# Altium schematic symbol library Molex FFC - FPC Connectors (Through-Hole).SchLib: 219 symbols (part 4 of 7)
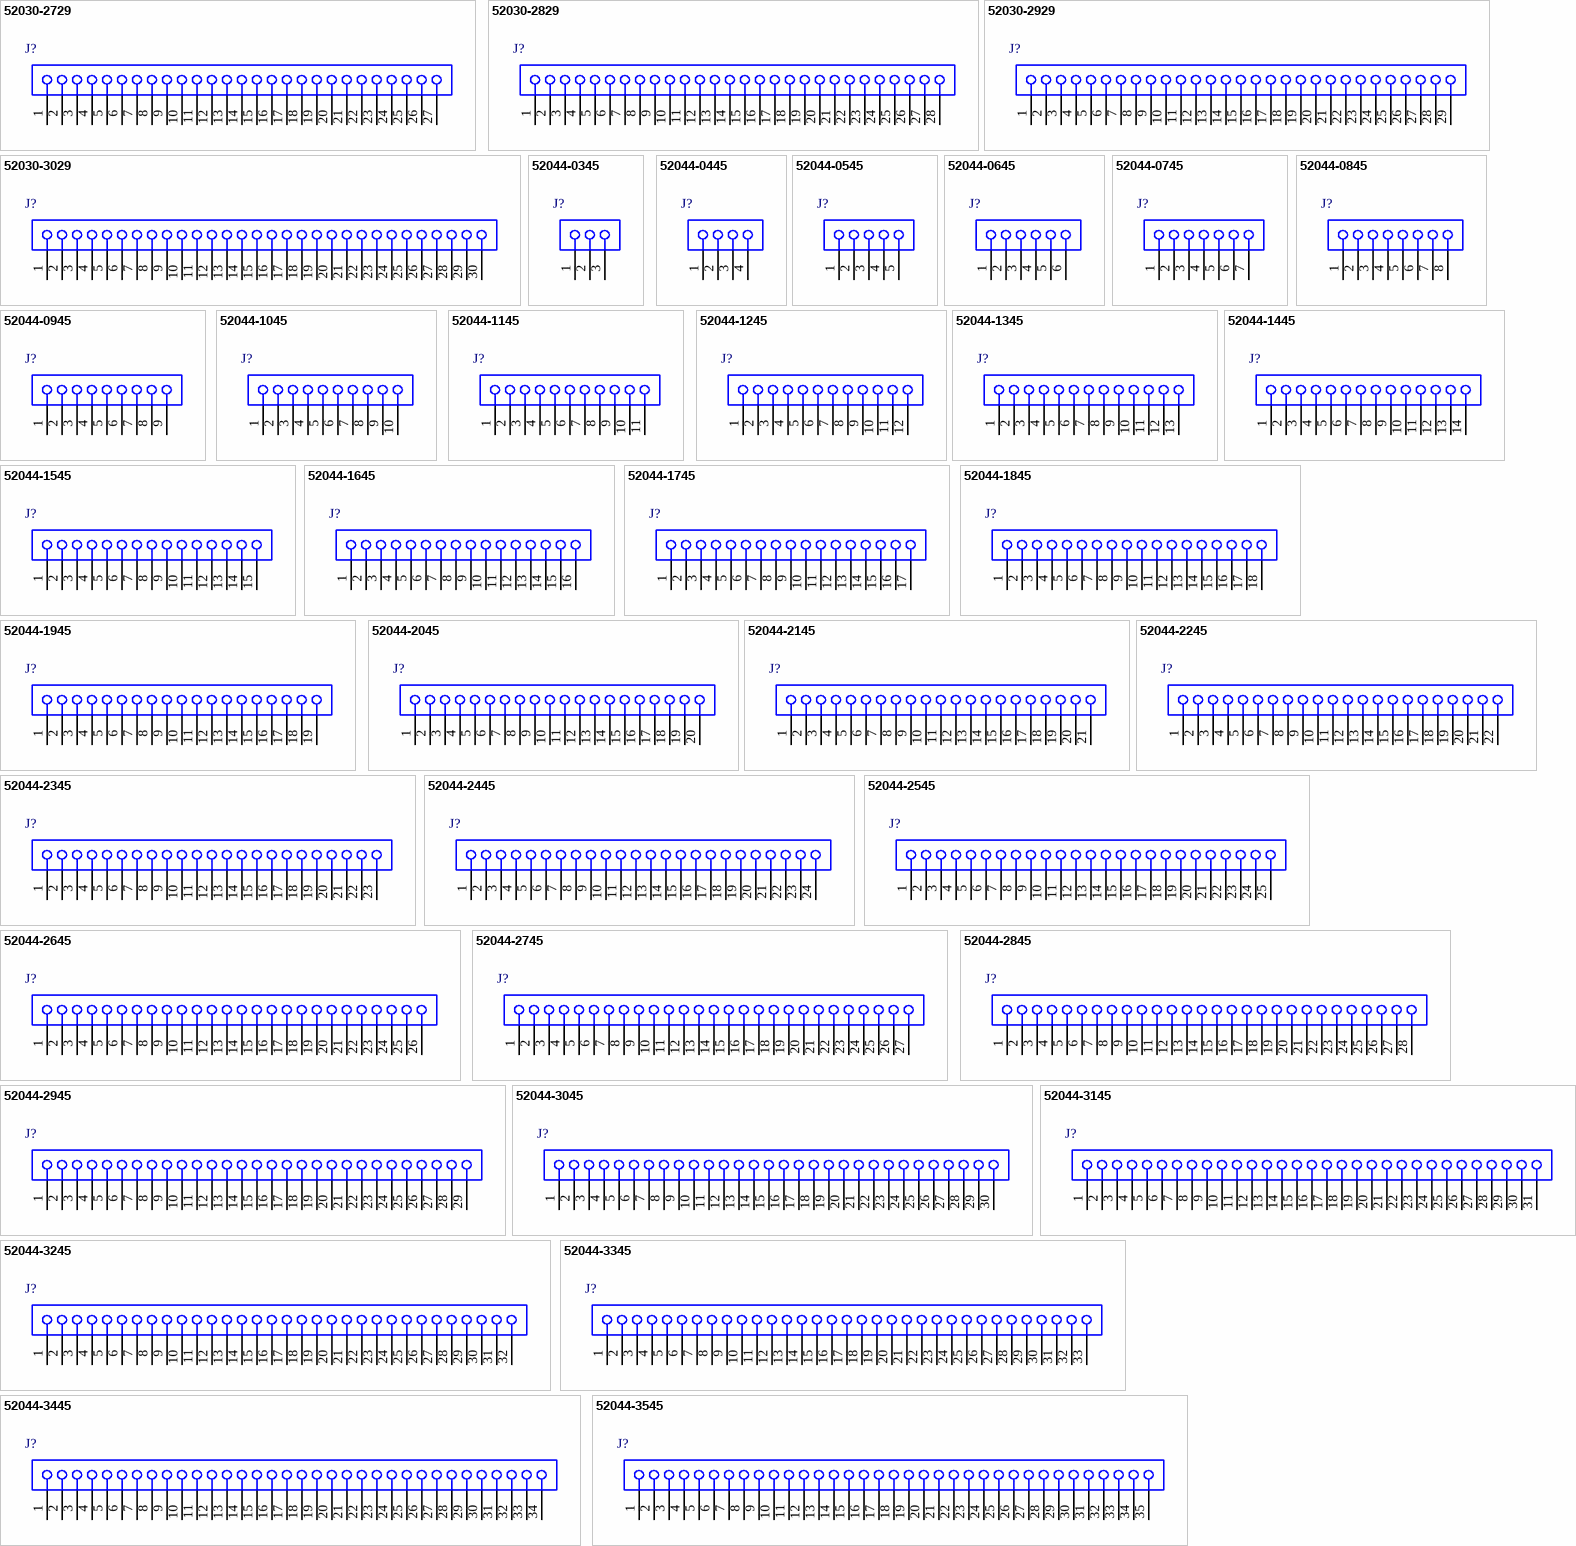
[diagram p8: symbols 52030-2729 to 52044-3545]

## 52044-2945
designator J?
1.25 mm Pitch FFC Connector, 5.1 mm Mated Height, Right Angle, Non-ZIF, Through Hole, Top Contact, 29 Circuits, -40 to 85 degC, ELV and RoHS Compliant, Tray; Manufacturer: Molex; PartNumber: 52044-2945; Circuits (Loaded): 29; Current (Max per Contact): 0.5A, 1A; Entry Angle: 90degrees Angle; Mated Height: 5.10mm; PCB Retention: None; Pitch - Mating Interface: 1.25mm; Polarized to PCB: Yes; Stackable: No; Voltage (Max): 200V; PackageVersion: Rev. C, 10/2002; PackageReference: 52044-2945; PackageDescription: 29-Lead FFC Connector, Pitch 1.25 mm; Contact Position: Top; Number of Rows: 1; Orientation: Right Angle; Packing: Tray; RoHS: TRUE; Mounting Technology: Through Hole; ComponentLink1Description: Manufacturer URL; ComponentLink1URL: http://www.molex.com/molex/index.jsp; ComponentLink2Description: Datasheet; ComponentLink2URL: http://www.molex.com/webdocs/datasheets/pdf/en-us/0520442945_FFC_FPC_CONNECTORS.pdf; ComponentLink3Description: Package Specification; ComponentLink3URL: http://www.molex.com/pdm_docs/sd/520442945_sd.pdf
footprint MOLX-52044-2945 (FFC Connector, 29-Leads, Right Angle, Pitch 1.25 mm, Mated Height 5.1 mm, Through Hole)
pins: 1, 2, 3, 4, 5, 6, 7, 8, 9, 10, 11, 12, 13, 14, 15, 16, 17, 18, 19, 20, 21, 22, 23, 24, 25, 26, 27, 28, 29

## 52044-3045
designator J?
1.25 mm Pitch FFC Connector, 5.1 mm Mated Height, Right Angle, Non-ZIF, Through Hole, Top Contact, 30 Circuits, -40 to 85 degC, ELV and RoHS Compliant, Tray; Manufacturer: Molex; PartNumber: 52044-3045; Circuits (Loaded): 30; Current (Max per Contact): 0.5A, 1A; Entry Angle: 90degrees Angle; Mated Height: 5.10mm; PCB Retention: None; Pitch - Mating Interface: 1.25mm; Polarized to PCB: Yes; Stackable: No; Voltage (Max): 200V; PackageVersion: Rev. C, 10/2002; PackageReference: 52044-3045; PackageDescription: 30-Lead FFC Connector, Pitch 1.25 mm; Contact Position: Top; Number of Rows: 1; Orientation: Right Angle; Packing: Tray; RoHS: TRUE; Mounting Technology: Through Hole; ComponentLink1Description: Manufacturer URL; ComponentLink1URL: http://www.molex.com/molex/index.jsp; ComponentLink2Description: Datasheet; ComponentLink2URL: http://www.molex.com/webdocs/datasheets/pdf/en-us/0520443045_FFC_FPC_CONNECTORS.pdf; ComponentLink3Description: Package Specification; ComponentLink3URL: http://www.molex.com/pdm_docs/sd/520443045_sd.pdf
footprint MOLX-52044-3045 (FFC Connector, 30-Leads, Right Angle, Pitch 1.25 mm, Mated Height 5.1 mm, Through Hole)
pins: 1, 2, 3, 4, 5, 6, 7, 8, 9, 10, 11, 12, 13, 14, 15, 16, 17, 18, 19, 20, 21, 22, 23, 24, 25, 26, 27, 28, 29, 30

## 52044-3145
designator J?
1.25 mm Pitch FFC Connector, 5.1 mm Mated Height, Right Angle, Non-ZIF, Through Hole, Top Contact, 31 Circuits, -40 to 85 degC, ELV and RoHS Compliant, Tray; Manufacturer: Molex; PartNumber: 52044-3145; Circuits (Loaded): 31; Current (Max per Contact): 0.5A, 1A; Entry Angle: 90degrees Angle; Mated Height: 5.10mm; PCB Retention: None; Pitch - Mating Interface: 1.25mm; Polarized to PCB: Yes; Stackable: No; Voltage (Max): 200V; PackageVersion: Rev. C, 10/2002; PackageReference: 52044-3145; PackageDescription: 31-Lead FFC Connector, Pitch 1.25 mm; Contact Position: Top; Number of Rows: 1; Orientation: Right Angle; Packing: Tray; RoHS: TRUE; Mounting Technology: Through Hole; ComponentLink1Description: Manufacturer URL; ComponentLink1URL: http://www.molex.com/molex/index.jsp; ComponentLink2Description: Datasheet; ComponentLink2URL: http://www.molex.com/webdocs/datasheets/pdf/en-us/0520443145_FFC_FPC_CONNECTORS.pdf; ComponentLink3Description: Package Specification; ComponentLink3URL: http://www.molex.com/pdm_docs/sd/520443145_sd.pdf
footprint MOLX-52044-3145 (FFC Connector, 31-Leads, Right Angle, Pitch 1.25 mm, Mated Height 5.1 mm, Through Hole)
pins: 1, 2, 3, 4, 5, 6, 7, 8, 9, 10, 11, 12, 13, 14, 15, 16, 17, 18, 19, 20, 21, 22, 23, 24, 25, 26, 27, 28, 29, 30, 31

## 52044-3245
designator J?
1.25 mm Pitch FFC Connector, 5.1 mm Mated Height, Right Angle, Non-ZIF, Through Hole, Top Contact, 32 Circuits, -40 to 85 degC, ELV and RoHS Compliant, Tray; Manufacturer: Molex; PartNumber: 52044-3245; Circuits (Loaded): 32; Current (Max per Contact): 0.5A, 1A; Entry Angle: 90degrees Angle; Mated Height: 5.10mm; PCB Retention: None; Pitch - Mating Interface: 1.25mm; Polarized to PCB: Yes; Stackable: No; Voltage (Max): 200V; PackageVersion: Rev. C, 10/2002; PackageReference: 52044-3245; PackageDescription: 32-Lead FFC Connector, Pitch 1.25 mm; Contact Position: Top; Number of Rows: 1; Orientation: Right Angle; Packing: Tray; RoHS: TRUE; Mounting Technology: Through Hole; ComponentLink1Description: Manufacturer URL; ComponentLink1URL: http://www.molex.com/molex/index.jsp; ComponentLink2Description: Datasheet; ComponentLink2URL: http://www.molex.com/webdocs/datasheets/pdf/en-us/0520443245_FFC_FPC_CONNECTORS.pdf; ComponentLink3Description: Package Specification; ComponentLink3URL: http://www.molex.com/pdm_docs/sd/520443245_sd.pdf
footprint MOLX-52044-3245 (FFC Connector, 32-Leads, Right Angle, Pitch 1.25 mm, Mated Height 5.1 mm, Through Hole)
pins: 1, 2, 3, 4, 5, 6, 7, 8, 9, 10, 11, 12, 13, 14, 15, 16, 17, 18, 19, 20, 21, 22, 23, 24, 25, 26, 27, 28, 29, 30, 31, 32

## 52044-3345
designator J?
1.25 mm Pitch FFC Connector, 5.1 mm Mated Height, Right Angle, Non-ZIF, Through Hole, Top Contact, 33 Circuits, -40 to 85 degC, ELV and RoHS Compliant, Tray; Manufacturer: Molex; PartNumber: 52044-3345; Circuits (Loaded): 33; Current (Max per Contact): 0.5A, 1A; Entry Angle: 90degrees Angle; Mated Height: 5.10mm; PCB Retention: None; Pitch - Mating Interface: 1.25mm; Polarized to PCB: Yes; Stackable: No; Voltage (Max): 200V; PackageVersion: Rev. C, 10/2002; PackageReference: 52044-3345; PackageDescription: 33-Lead FFC Connector, Pitch 1.25 mm; Contact Position: Top; Number of Rows: 1; Orientation: Right Angle; Packing: Tray; RoHS: TRUE; Mounting Technology: Through Hole; ComponentLink1Description: Manufacturer URL; ComponentLink1URL: http://www.molex.com/molex/index.jsp; ComponentLink2Description: Datasheet; ComponentLink2URL: http://www.molex.com/webdocs/datasheets/pdf/en-us/0520443345_FFC_FPC_CONNECTORS.pdf; ComponentLink3Description: Package Specification; ComponentLink3URL: http://www.molex.com/pdm_docs/sd/520443345_sd.pdf
footprint MOLX-52044-3345 (FFC Connector, 33-Leads, Right Angle, Pitch 1.25 mm, Mated Height 5.1 mm, Through Hole)
pins: 1, 2, 3, 4, 5, 6, 7, 8, 9, 10, 11, 12, 13, 14, 15, 16, 17, 18, 19, 20, 21, 22, 23, 24, 25, 26, 27, 28, 29, 30, 31, 32, 33

## 52044-3445
designator J?
1.25 mm Pitch FFC Connector, 5.1 mm Mated Height, Right Angle, Non-ZIF, Through Hole, Top Contact, 34 Circuits, -40 to 85 degC, ELV and RoHS Compliant, Tray; Manufacturer: Molex; PartNumber: 52044-3445; Circuits (Loaded): 34; Current (Max per Contact): 0.5A, 1A; Entry Angle: 90degrees Angle; Mated Height: 5.10mm; PCB Retention: None; Pitch - Mating Interface: 1.25mm; Polarized to PCB: Yes; Stackable: No; Voltage (Max): 200V; PackageVersion: Rev. C, 10/2002; PackageReference: 52044-3445; PackageDescription: 34-Lead FFC Connector, Pitch 1.25 mm; Contact Position: Top; Number of Rows: 1; Orientation: Right Angle; Packing: Tray; RoHS: TRUE; Mounting Technology: Through Hole; ComponentLink1Description: Manufacturer URL; ComponentLink1URL: http://www.molex.com/molex/index.jsp; ComponentLink2Description: Datasheet; ComponentLink2URL: http://www.molex.com/webdocs/datasheets/pdf/en-us/0520443445_FFC_FPC_CONNECTORS.pdf; ComponentLink3Description: Package Specification; ComponentLink3URL: http://www.molex.com/pdm_docs/sd/520443445_sd.pdf
footprint MOLX-52044-3445 (FFC Connector, 34-Leads, Right Angle, Pitch 1.25 mm, Mated Height 5.1 mm, Through Hole)
pins: 1, 2, 3, 4, 5, 6, 7, 8, 9, 10, 11, 12, 13, 14, 15, 16, 17, 18, 19, 20, 21, 22, 23, 24, 25, 26, 27, 28, 29, 30, 31, 32, 33, 34

## 52044-3545
designator J?
1.25 mm Pitch FFC Connector, 5.1 mm Mated Height, Right Angle, Non-ZIF, Through Hole, Top Contact, 35 Circuits, -40 to 85 degC, ELV and RoHS Compliant, Tray; Manufacturer: Molex; PartNumber: 52044-3545; Circuits (Loaded): 35; Current (Max per Contact): 0.5A, 1A; Entry Angle: 90degrees Angle; Mated Height: 5.10mm; PCB Retention: None; Pitch - Mating Interface: 1.25mm; Polarized to PCB: Yes; Stackable: No; Voltage (Max): 200V; PackageVersion: Rev. C, 10/2002; PackageReference: 52044-3545; PackageDescription: 35-Lead FFC Connector, Pitch 1.25 mm; Contact Position: Top; Number of Rows: 1; Orientation: Right Angle; Packing: Tray; RoHS: TRUE; Mounting Technology: Through Hole; ComponentLink1Description: Manufacturer URL; ComponentLink1URL: http://www.molex.com/molex/index.jsp; ComponentLink2Description: Datasheet; ComponentLink2URL: http://www.molex.com/webdocs/datasheets/pdf/en-us/0520443545_FFC_FPC_CONNECTORS.pdf; ComponentLink3Description: Package Specification; ComponentLink3URL: http://www.molex.com/pdm_docs/sd/520443545_sd.pdf
footprint MOLX-52044-3545 (FFC Connector, 35-Leads, Right Angle, Pitch 1.25 mm, Mated Height 5.1 mm, Through Hole)
pins: 1, 2, 3, 4, 5, 6, 7, 8, 9, 10, 11, 12, 13, 14, 15, 16, 17, 18, 19, 20, 21, 22, 23, 24, 25, 26, 27, 28, 29, 30, 31, 32, 33, 34, 35

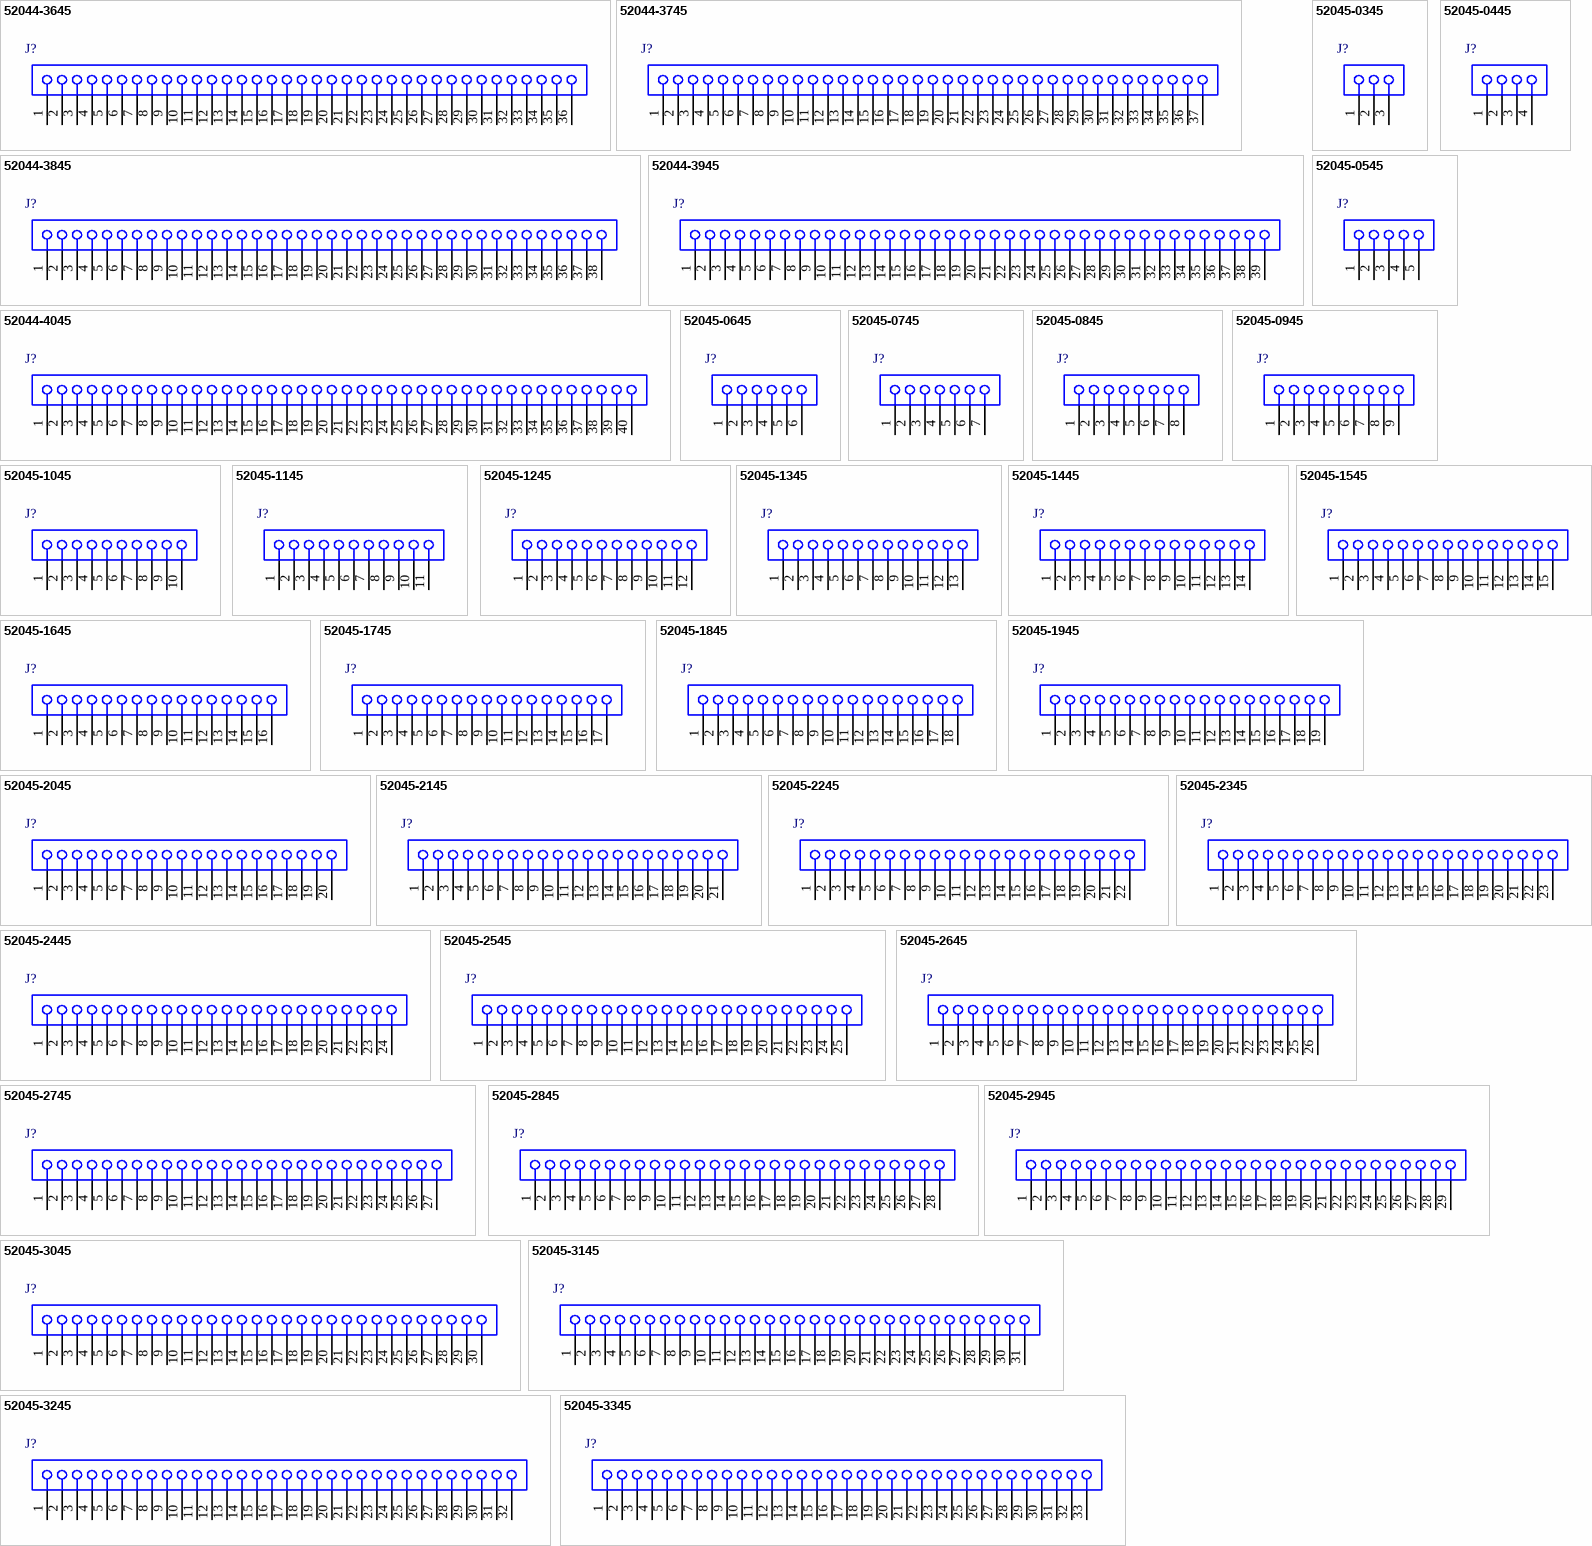
[diagram p3: symbols 52044-3645 to 52045-3345]

## 52044-3645
designator J?
1.25 mm Pitch FFC Connector, 5.1 mm Mated Height, Right Angle, Non-ZIF, Through Hole, Top Contact, 36 Circuits, -40 to 85 degC, ELV and RoHS Compliant, Tray; Manufacturer: Molex; PartNumber: 52044-3645; Circuits (Loaded): 36; Current (Max per Contact): 0.5A, 1A; Entry Angle: 90degrees Angle; Mated Height: 5.10mm; PCB Retention: None; Pitch - Mating Interface: 1.25mm; Polarized to PCB: Yes; Stackable: No; Voltage (Max): 200V; PackageVersion: Rev. C, 10/2002; PackageReference: 52044-3645; PackageDescription: 36-Lead FFC Connector, Pitch 1.25 mm; Contact Position: Top; Number of Rows: 1; Orientation: Right Angle; Packing: Tray; RoHS: TRUE; Mounting Technology: Through Hole; ComponentLink1Description: Manufacturer URL; ComponentLink1URL: http://www.molex.com/molex/index.jsp; ComponentLink2Description: Datasheet; ComponentLink2URL: http://www.molex.com/webdocs/datasheets/pdf/en-us/0520443645_FFC_FPC_CONNECTORS.pdf; ComponentLink3Description: Package Specification; ComponentLink3URL: http://www.molex.com/pdm_docs/sd/520443645_sd.pdf
footprint MOLX-52044-3645 (FFC Connector, 36-Leads, Right Angle, Pitch 1.25 mm, Mated Height 5.1 mm, Through Hole)
pins: 1, 2, 3, 4, 5, 6, 7, 8, 9, 10, 11, 12, 13, 14, 15, 16, 17, 18, 19, 20, 21, 22, 23, 24, 25, 26, 27, 28, 29, 30, 31, 32, 33, 34, 35, 36

## 52044-3745
designator J?
1.25 mm Pitch FFC Connector, 5.1 mm Mated Height, Right Angle, Non-ZIF, Through Hole, Top Contact, 37 Circuits, -40 to 85 degC, ELV and RoHS Compliant, Tray; Manufacturer: Molex; PartNumber: 52044-3745; Circuits (Loaded): 37; Current (Max per Contact): 0.5A, 1A; Entry Angle: 90degrees Angle; Mated Height: 5.10mm; PCB Retention: None; Pitch - Mating Interface: 1.25mm; Polarized to PCB: Yes; Stackable: No; Voltage (Max): 200V; PackageVersion: Rev. C, 10/2002; PackageReference: 52044-3745; PackageDescription: 37-Lead FFC Connector, Pitch 1.25 mm; Contact Position: Top; Number of Rows: 1; Orientation: Right Angle; Packing: Tray; RoHS: TRUE; Mounting Technology: Through Hole; ComponentLink1Description: Manufacturer URL; ComponentLink1URL: http://www.molex.com/molex/index.jsp; ComponentLink2Description: Datasheet; ComponentLink2URL: http://www.molex.com/webdocs/datasheets/pdf/en-us/0520443745_FFC_FPC_CONNECTORS.pdf; ComponentLink3Description: Package Specification; ComponentLink3URL: http://www.molex.com/pdm_docs/sd/520443745_sd.pdf
footprint MOLX-52044-3745 (FFC Connector, 37-Leads, Right Angle, Pitch 1.25 mm, Mated Height 5.1 mm, Through Hole)
pins: 1, 2, 3, 4, 5, 6, 7, 8, 9, 10, 11, 12, 13, 14, 15, 16, 17, 18, 19, 20, 21, 22, 23, 24, 25, 26, 27, 28, 29, 30, 31, 32, 33, 34, 35, 36, 37

## 52044-3845
designator J?
1.25 mm Pitch FFC Connector, 5.1 mm Mated Height, Right Angle, Non-ZIF, Through Hole, Top Contact, 38 Circuits, -40 to 85 degC, ELV and RoHS Compliant, Tray; Manufacturer: Molex; PartNumber: 52044-3845; Circuits (Loaded): 38; Current (Max per Contact): 0.5A, 1A; Entry Angle: 90degrees Angle; Mated Height: 5.10mm; PCB Retention: None; Pitch - Mating Interface: 1.25mm; Polarized to PCB: Yes; Stackable: No; Voltage (Max): 200V; PackageVersion: Rev. C, 10/2002; PackageReference: 52044-3845; PackageDescription: 38-Lead FFC Connector, Pitch 1.25 mm; Contact Position: Top; Number of Rows: 1; Orientation: Right Angle; Packing: Tray; RoHS: TRUE; Mounting Technology: Through Hole; ComponentLink1Description: Manufacturer URL; ComponentLink1URL: http://www.molex.com/molex/index.jsp; ComponentLink2Description: Datasheet; ComponentLink2URL: http://www.molex.com/webdocs/datasheets/pdf/en-us/0520443845_FFC_FPC_CONNECTORS.pdf; ComponentLink3Description: Package Specification; ComponentLink3URL: http://www.molex.com/pdm_docs/sd/520443845_sd.pdf
footprint MOLX-52044-3845 (FFC Connector, 38-Leads, Right Angle, Pitch 1.25 mm, Mated Height 5.1 mm, Through Hole)
pins: 1, 2, 3, 4, 5, 6, 7, 8, 9, 10, 11, 12, 13, 14, 15, 16, 17, 18, 19, 20, 21, 22, 23, 24, 25, 26, 27, 28, 29, 30, 31, 32, 33, 34, 35, 36, 37, 38

## 52044-3945
designator J?
1.25 mm Pitch FFC Connector, 5.1 mm Mated Height, Right Angle, Non-ZIF, Through Hole, Top Contact, 39 Circuits, -40 to 85 degC, ELV and RoHS Compliant, Tray; Manufacturer: Molex; PartNumber: 52044-3945; Circuits (Loaded): 39; Current (Max per Contact): 0.5A, 1A; Entry Angle: 90degrees Angle; Mated Height: 5.10mm; PCB Retention: None; Pitch - Mating Interface: 1.25mm; Polarized to PCB: Yes; Stackable: No; Voltage (Max): 200V; PackageVersion: Rev. C, 10/2002; PackageReference: 52044-3945; PackageDescription: 39-Lead FFC Connector, Pitch 1.25 mm; Contact Position: Top; Number of Rows: 1; Orientation: Right Angle; Packing: Tray; RoHS: TRUE; Mounting Technology: Through Hole; ComponentLink1Description: Manufacturer URL; ComponentLink1URL: http://www.molex.com/molex/index.jsp; ComponentLink2Description: Datasheet; ComponentLink2URL: http://www.molex.com/webdocs/datasheets/pdf/en-us/0520443945_FFC_FPC_CONNECTORS.pdf; ComponentLink3Description: Package Specification; ComponentLink3URL: http://www.molex.com/pdm_docs/sd/520443945_sd.pdf
footprint MOLX-52044-3945 (FFC Connector, 39-Leads, Right Angle, Pitch 1.25 mm, Mated Height 5.1 mm, Through Hole)
pins: 1, 2, 3, 4, 5, 6, 7, 8, 9, 10, 11, 12, 13, 14, 15, 16, 17, 18, 19, 20, 21, 22, 23, 24, 25, 26, 27, 28, 29, 30, 31, 32, 33, 34, 35, 36, 37, 38, 39

## 52044-4045
designator J?
1.25 mm Pitch FFC Connector, 5.1 mm Mated Height, Right Angle, Non-ZIF, Through Hole, Top Contact, 40 Circuits, -40 to 85 degC, ELV and RoHS Compliant, Tray; Manufacturer: Molex; PartNumber: 52044-4045; Circuits (Loaded): 40; Current (Max per Contact): 0.5A, 1A; Entry Angle: 90degrees Angle; Mated Height: 5.10mm; PCB Retention: None; Pitch - Mating Interface: 1.25mm; Polarized to PCB: Yes; Stackable: No; Voltage (Max): 200V; PackageVersion: Rev. C, 10/2002; PackageReference: 52044-4045; PackageDescription: 40-Lead FFC Connector, Pitch 1.25 mm; Contact Position: Top; Number of Rows: 1; Orientation: Right Angle; Packing: Tray; RoHS: TRUE; Mounting Technology: Through Hole; ComponentLink1Description: Manufacturer URL; ComponentLink1URL: http://www.molex.com/molex/index.jsp; ComponentLink2Description: Datasheet; ComponentLink2URL: http://www.molex.com/webdocs/datasheets/pdf/en-us/0520444045_FFC_FPC_CONNECTORS.pdf; ComponentLink3Description: Package Specification; ComponentLink3URL: http://www.molex.com/pdm_docs/sd/520444045_sd.pdf
footprint MOLX-52044-4045 (FFC Connector, 40-Leads, Right Angle, Pitch 1.25 mm, Mated Height 5.1 mm, Through Hole)
pins: 1, 2, 3, 4, 5, 6, 7, 8, 9, 10, 11, 12, 13, 14, 15, 16, 17, 18, 19, 20, 21, 22, 23, 24, 25, 26, 27, 28, 29, 30, 31, 32, 33, 34, 35, 36, 37, 38, 39, 40

## 52045-0345
designator J?
1.25 mm Pitch FFC Connector, 8.0 mm Mated Height, Vertical, Non-ZIF, Through Hole, 3 Circuits, -40 to 85 degC, ELV and RoHS Compliant, Tray; Manufacturer: Molex; PartNumber: 52045-0345; Circuits (Loaded): 3; Current (Max per Contact): 1A; Mated Height: 8.00mm; Material - Metal: Phosphor Bronze; Material - Plating Mating: Tin; PCB Retention: None; Pitch - Mating Interface: 1.25mm; Polarized to PCB: Yes; Stackable: No; Voltage (Max): 200V; PackageVersion: Rev. D, 10/2002; PackageReference: 52045-0345; PackageDescription: 3-Lead FFC Connector, Pitch 1.25 mm; Contact Position: N/A; Entry Angle: Vertical; Material - Plating Termination: Tin; Number of Rows: 1; Orientation: Vertical; Packing: Tray; RoHS: TRUE; Mounting Technology: Through Hole; ComponentLink1Description: Manufacturer URL; ComponentLink1URL: http://www.molex.com/molex/index.jsp; ComponentLink2Description: Datasheet; ComponentLink2URL: http://www.molex.com/webdocs/datasheets/pdf/en-us/0520450345_FFC_FPC_CONNECTORS.pdf; ComponentLink3Description: Package Specification; ComponentLink3URL: http://www.molex.com/pdm_docs/sd/520450345_sd.pdf
footprint MOLX-52045-0345 (FFC Connector, 3-Leads, Vertical, Pitch 1.25 mm, Mated Height 8.0 mm, Through Hole)
pins: 1, 2, 3

## 52045-0445
designator J?
1.25 mm Pitch FFC Connector, 8.0 mm Mated Height, Vertical, Non-ZIF, Through Hole, 4 Circuits, -40 to 85 degC, ELV and RoHS Compliant, Tray; Manufacturer: Molex; PartNumber: 52045-0445; Circuits (Loaded): 4; Current (Max per Contact): 1A; Mated Height: 8.00mm; Material - Metal: Phosphor Bronze; Material - Plating Mating: Tin; PCB Retention: None; Pitch - Mating Interface: 1.25mm; Polarized to PCB: Yes; Stackable: No; Voltage (Max): 200V; PackageVersion: Rev. D, 10/2002; PackageReference: 52045-0445; PackageDescription: 4-Lead FFC Connector, Pitch 1.25 mm; Contact Position: N/A; Entry Angle: Vertical; Material - Plating Termination: Tin; Number of Rows: 1; Orientation: Vertical; Packing: Tray; RoHS: TRUE; Mounting Technology: Through Hole; ComponentLink1Description: Manufacturer URL; ComponentLink1URL: http://www.molex.com/molex/index.jsp; ComponentLink2Description: Datasheet; ComponentLink2URL: http://www.molex.com/webdocs/datasheets/pdf/en-us/0520450445_FFC_FPC_CONNECTORS.pdf; ComponentLink3Description: Package Specification; ComponentLink3URL: http://www.molex.com/pdm_docs/sd/520450445_sd.pdf
footprint MOLX-52045-0445 (FFC Connector, 4-Leads, Vertical, Pitch 1.25 mm, Mated Height 8.0 mm, Through Hole)
pins: 1, 2, 3, 4

## 52045-0545
designator J?
1.25 mm Pitch FFC Connector, 8.0 mm Mated Height, Vertical, Non-ZIF, Through Hole, 5 Circuits, -40 to 85 degC, ELV and RoHS Compliant, Tray; Manufacturer: Molex; PartNumber: 52045-0545; Circuits (Loaded): 5; Current (Max per Contact): 1A; Mated Height: 8.00mm; Material - Metal: Phosphor Bronze; Material - Plating Mating: Tin; PCB Retention: None; Pitch - Mating Interface: 1.25mm; Polarized to PCB: Yes; Stackable: No; Voltage (Max): 200V; PackageVersion: Rev. D, 10/2002; PackageReference: 52045-0545; PackageDescription: 5-Lead FFC Connector, Pitch 1.25 mm; Contact Position: N/A; Entry Angle: Vertical; Material - Plating Termination: Tin; Number of Rows: 1; Orientation: Vertical; Packing: Tray; RoHS: TRUE; Mounting Technology: Through Hole; ComponentLink1Description: Manufacturer URL; ComponentLink1URL: http://www.molex.com/molex/index.jsp; ComponentLink2Description: Datasheet; ComponentLink2URL: http://www.molex.com/webdocs/datasheets/pdf/en-us/0520450545_FFC_FPC_CONNECTORS.pdf; ComponentLink3Description: Package Specification; ComponentLink3URL: http://www.molex.com/pdm_docs/sd/520450545_sd.pdf
footprint MOLX-52045-0545 (FFC Connector, 5-Leads, Vertical, Pitch 1.25 mm, Mated Height 8.0 mm, Through Hole)
pins: 1, 2, 3, 4, 5

## 52045-0645
designator J?
1.25 mm Pitch FFC Connector, 8.0 mm Mated Height, Vertical, Non-ZIF, Through Hole, 6 Circuits, -40 to 85 degC, ELV and RoHS Compliant, Tray; Manufacturer: Molex; PartNumber: 52045-0645; Circuits (Loaded): 6; Current (Max per Contact): 1A; Mated Height: 8.00mm; Material - Metal: Phosphor Bronze; Material - Plating Mating: Tin; PCB Retention: None; Pitch - Mating Interface: 1.25mm; Polarized to PCB: Yes; Stackable: No; Voltage (Max): 200V; PackageVersion: Rev. D, 10/2002; PackageReference: 52045-0645; PackageDescription: 6-Lead FFC Connector, Pitch 1.25 mm; Contact Position: N/A; Entry Angle: Vertical; Material - Plating Termination: Tin; Number of Rows: 1; Orientation: Vertical; Packing: Tray; RoHS: TRUE; Mounting Technology: Through Hole; ComponentLink1Description: Manufacturer URL; ComponentLink1URL: http://www.molex.com/molex/index.jsp; ComponentLink2Description: Datasheet; ComponentLink2URL: http://www.molex.com/webdocs/datasheets/pdf/en-us/0520450645_FFC_FPC_CONNECTORS.pdf; ComponentLink3Description: Package Specification; ComponentLink3URL: http://www.molex.com/pdm_docs/sd/520450645_sd.pdf
footprint MOLX-52045-0645 (FFC Connector, 6-Leads, Vertical, Pitch 1.25 mm, Mated Height 8.0 mm, Through Hole)
pins: 1, 2, 3, 4, 5, 6

## 52045-0745
designator J?
1.25 mm Pitch FFC Connector, 8.0 mm Mated Height, Vertical, Non-ZIF, Through Hole, 7 Circuits, -40 to 85 degC, ELV and RoHS Compliant, Tray; Manufacturer: Molex; PartNumber: 52045-0745; Circuits (Loaded): 7; Current (Max per Contact): 1A; Mated Height: 8.00mm; Material - Metal: Phosphor Bronze; Material - Plating Mating: Tin; PCB Retention: None; Pitch - Mating Interface: 1.25mm; Polarized to PCB: Yes; Stackable: No; Voltage (Max): 200V; PackageVersion: Rev. D, 10/2002; PackageReference: 52045-0745; PackageDescription: 7-Lead FFC Connector, Pitch 1.25 mm; Contact Position: N/A; Entry Angle: Vertical; Material - Plating Termination: Tin; Number of Rows: 1; Orientation: Vertical; Packing: Tray; RoHS: TRUE; Mounting Technology: Through Hole; ComponentLink1Description: Manufacturer URL; ComponentLink1URL: http://www.molex.com/molex/index.jsp; ComponentLink2Description: Datasheet; ComponentLink2URL: http://www.molex.com/webdocs/datasheets/pdf/en-us/0520450745_FFC_FPC_CONNECTORS.pdf; ComponentLink3Description: Package Specification; ComponentLink3URL: http://www.molex.com/pdm_docs/sd/520450745_sd.pdf
footprint MOLX-52045-0745 (FFC Connector, 7-Leads, Vertical, Pitch 1.25 mm, Mated Height 8.0 mm, Through Hole)
pins: 1, 2, 3, 4, 5, 6, 7

## 52045-0845
designator J?
1.25 mm Pitch FFC Connector, 8.0 mm Mated Height, Vertical, Non-ZIF, Through Hole, 8 Circuits, -40 to 85 degC, ELV and RoHS Compliant, Tray; Manufacturer: Molex; PartNumber: 52045-0845; Circuits (Loaded): 8; Current (Max per Contact): 1A; Mated Height: 8.00mm; Material - Metal: Phosphor Bronze; Material - Plating Mating: Tin; PCB Retention: None; Pitch - Mating Interface: 1.25mm; Polarized to PCB: Yes; Stackable: No; Voltage (Max): 200V; PackageVersion: Rev. D, 10/2002; PackageReference: 52045-0845; PackageDescription: 8-Lead FFC Connector, Pitch 1.25 mm; Contact Position: N/A; Entry Angle: Vertical; Material - Plating Termination: Tin; Number of Rows: 1; Orientation: Vertical; Packing: Tray; RoHS: TRUE; Mounting Technology: Through Hole; ComponentLink1Description: Manufacturer URL; ComponentLink1URL: http://www.molex.com/molex/index.jsp; ComponentLink2Description: Datasheet; ComponentLink2URL: http://www.molex.com/webdocs/datasheets/pdf/en-us/0520450845_FFC_FPC_CONNECTORS.pdf; ComponentLink3Description: Package Specification; ComponentLink3URL: http://www.molex.com/pdm_docs/sd/520450845_sd.pdf
footprint MOLX-52045-0845 (FFC Connector, 8-Leads, Vertical, Pitch 1.25 mm, Mated Height 8.0 mm, Through Hole)
pins: 1, 2, 3, 4, 5, 6, 7, 8

## 52045-0945
designator J?
1.25 mm Pitch FFC Connector, 8.0 mm Mated Height, Vertical, Non-ZIF, Through Hole, 9 Circuits, -40 to 85 degC, ELV and RoHS Compliant, Tray; Manufacturer: Molex; PartNumber: 52045-0945; Circuits (Loaded): 9; Current (Max per Contact): 1A; Mated Height: 8.00mm; Material - Metal: Phosphor Bronze; Material - Plating Mating: Tin; PCB Retention: None; Pitch - Mating Interface: 1.25mm; Polarized to PCB: Yes; Stackable: No; Voltage (Max): 200V; PackageVersion: Rev. D, 10/2002; PackageReference: 52045-0945; PackageDescription: 9-Lead FFC Connector, Pitch 1.25 mm; Contact Position: N/A; Entry Angle: Vertical; Material - Plating Termination: Tin; Number of Rows: 1; Orientation: Vertical; Packing: Tray; RoHS: TRUE; Mounting Technology: Through Hole; ComponentLink1Description: Manufacturer URL; ComponentLink1URL: http://www.molex.com/molex/index.jsp; ComponentLink2Description: Datasheet; ComponentLink2URL: http://www.molex.com/webdocs/datasheets/pdf/en-us/0520450945_FFC_FPC_CONNECTORS.pdf; ComponentLink3Description: Package Specification; ComponentLink3URL: http://www.molex.com/pdm_docs/sd/520450945_sd.pdf
footprint MOLX-52045-0945 (FFC Connector, 9-Leads, Vertical, Pitch 1.25 mm, Mated Height 8.0 mm, Through Hole)
pins: 1, 2, 3, 4, 5, 6, 7, 8, 9

## 52045-1045
designator J?
1.25 mm Pitch FFC Connector, 8.0 mm Mated Height, Vertical, Non-ZIF, Through Hole, 10 Circuits, -40 to 85 degC, ELV and RoHS Compliant, Tray; Manufacturer: Molex; PartNumber: 52045-1045; Circuits (Loaded): 10; Current (Max per Contact): 1A; Mated Height: 8.00mm; Material - Metal: Phosphor Bronze; Material - Plating Mating: Tin; PCB Retention: None; Pitch - Mating Interface: 1.25mm; Polarized to PCB: Yes; Stackable: No; Voltage (Max): 200V; PackageVersion: Rev. D, 10/2002; PackageReference: 52045-1045; PackageDescription: 10-Lead FFC Connector, Pitch 1.25 mm; Contact Position: N/A; Entry Angle: Vertical; Material - Plating Termination: Tin; Number of Rows: 1; Orientation: Vertical; Packing: Tray; RoHS: TRUE; Mounting Technology: Through Hole; ComponentLink1Description: Manufacturer URL; ComponentLink1URL: http://www.molex.com/molex/index.jsp; ComponentLink2Description: Datasheet; ComponentLink2URL: http://www.molex.com/webdocs/datasheets/pdf/en-us/0520451045_FFC_FPC_CONNECTORS.pdf; ComponentLink3Description: Package Specification; ComponentLink3URL: http://www.molex.com/pdm_docs/sd/520451045_sd.pdf
footprint MOLX-52045-1045 (FFC Connector, 10-Leads, Vertical, Pitch 1.25 mm, Mated Height 8.0 mm, Through Hole)
pins: 1, 2, 3, 4, 5, 6, 7, 8, 9, 10

## 52045-1145
designator J?
1.25 mm Pitch FFC Connector, 8.0 mm Mated Height, Vertical, Non-ZIF, Through Hole, 11 Circuits, -40 to 85 degC, ELV and RoHS Compliant, Tray; Manufacturer: Molex; PartNumber: 52045-1145; Circuits (Loaded): 11; Current (Max per Contact): 1A; Mated Height: 8.00mm; Material - Metal: Phosphor Bronze; Material - Plating Mating: Tin; PCB Retention: None; Pitch - Mating Interface: 1.25mm; Polarized to PCB: Yes; Stackable: No; Voltage (Max): 200V; PackageVersion: Rev. D, 10/2002; PackageReference: 52045-1145; PackageDescription: 11-Lead FFC Connector, Pitch 1.25 mm; Contact Position: N/A; Entry Angle: Vertical; Material - Plating Termination: Tin; Number of Rows: 1; Orientation: Vertical; Packing: Tray; RoHS: TRUE; Mounting Technology: Through Hole; ComponentLink1Description: Manufacturer URL; ComponentLink1URL: http://www.molex.com/molex/index.jsp; ComponentLink2Description: Datasheet; ComponentLink2URL: http://www.molex.com/webdocs/datasheets/pdf/en-us/0520451145_FFC_FPC_CONNECTORS.pdf; ComponentLink3Description: Package Specification; ComponentLink3URL: http://www.molex.com/pdm_docs/sd/520451145_sd.pdf
footprint MOLX-52045-1145 (FFC Connector, 11-Leads, Vertical, Pitch 1.25 mm, Mated Height 8.0 mm, Through Hole)
pins: 1, 2, 3, 4, 5, 6, 7, 8, 9, 10, 11

## 52045-1245
designator J?
1.25 mm Pitch FFC Connector, 8.0 mm Mated Height, Vertical, Non-ZIF, Through Hole, 12 Circuits, -40 to 85 degC, ELV and RoHS Compliant, Tray; Manufacturer: Molex; PartNumber: 52045-1245; Circuits (Loaded): 12; Current (Max per Contact): 1A; Mated Height: 8.00mm; Material - Metal: Phosphor Bronze; Material - Plating Mating: Tin; PCB Retention: None; Pitch - Mating Interface: 1.25mm; Polarized to PCB: Yes; Stackable: No; Voltage (Max): 200V; PackageVersion: Rev. D, 10/2002; PackageReference: 52045-1245; PackageDescription: 12-Lead FFC Connector, Pitch 1.25 mm; Contact Position: N/A; Entry Angle: Vertical; Material - Plating Termination: Tin; Number of Rows: 1; Orientation: Vertical; Packing: Tray; RoHS: TRUE; Mounting Technology: Through Hole; ComponentLink1Description: Manufacturer URL; ComponentLink1URL: http://www.molex.com/molex/index.jsp; ComponentLink2Description: Datasheet; ComponentLink2URL: http://www.molex.com/webdocs/datasheets/pdf/en-us/0520451245_FFC_FPC_CONNECTORS.pdf; ComponentLink3Description: Package Specification; ComponentLink3URL: http://www.molex.com/pdm_docs/sd/520451245_sd.pdf
footprint MOLX-52045-1245 (FFC Connector, 12-Leads, Vertical, Pitch 1.25 mm, Mated Height 8.0 mm, Through Hole)
pins: 1, 2, 3, 4, 5, 6, 7, 8, 9, 10, 11, 12

## 52045-1345
designator J?
1.25 mm Pitch FFC Connector, 8.0 mm Mated Height, Vertical, Non-ZIF, Through Hole, 13 Circuits, -40 to 85 degC, ELV and RoHS Compliant, Tray; Manufacturer: Molex; PartNumber: 52045-1345; Circuits (Loaded): 13; Current (Max per Contact): 1A; Mated Height: 8.00mm; Material - Metal: Phosphor Bronze; Material - Plating Mating: Tin; PCB Retention: None; Pitch - Mating Interface: 1.25mm; Polarized to PCB: Yes; Stackable: No; Voltage (Max): 200V; PackageVersion: Rev. D, 10/2002; PackageReference: 52045-1345; PackageDescription: 13-Lead FFC Connector, Pitch 1.25 mm; Contact Position: N/A; Entry Angle: Vertical; Material - Plating Termination: Tin; Number of Rows: 1; Orientation: Vertical; Packing: Tray; RoHS: TRUE; Mounting Technology: Through Hole; ComponentLink1Description: Manufacturer URL; ComponentLink1URL: http://www.molex.com/molex/index.jsp; ComponentLink2Description: Datasheet; ComponentLink2URL: http://www.molex.com/webdocs/datasheets/pdf/en-us/0520451345_FFC_FPC_CONNECTORS.pdf; ComponentLink3Description: Package Specification; ComponentLink3URL: http://www.molex.com/pdm_docs/sd/520451345_sd.pdf
footprint MOLX-52045-1345 (FFC Connector, 13-Leads, Vertical, Pitch 1.25 mm, Mated Height 8.0 mm, Through Hole)
pins: 1, 2, 3, 4, 5, 6, 7, 8, 9, 10, 11, 12, 13

## 52045-1445
designator J?
1.25 mm Pitch FFC Connector, 8.0 mm Mated Height, Vertical, Non-ZIF, Through Hole, 14 Circuits, -40 to 85 degC, ELV and RoHS Compliant, Tray; Manufacturer: Molex; PartNumber: 52045-1445; Circuits (Loaded): 14; Current (Max per Contact): 1A; Mated Height: 8.00mm; Material - Metal: Phosphor Bronze; Material - Plating Mating: Tin; PCB Retention: None; Pitch - Mating Interface: 1.25mm; Polarized to PCB: Yes; Stackable: No; Voltage (Max): 200V; PackageVersion: Rev. D, 10/2002; PackageReference: 52045-1445; PackageDescription: 14-Lead FFC Connector, Pitch 1.25 mm; Contact Position: N/A; Entry Angle: Vertical; Material - Plating Termination: Tin; Number of Rows: 1; Orientation: Vertical; Packing: Tray; RoHS: TRUE; Mounting Technology: Through Hole; ComponentLink1Description: Manufacturer URL; ComponentLink1URL: http://www.molex.com/molex/index.jsp; ComponentLink2Description: Datasheet; ComponentLink2URL: http://www.molex.com/webdocs/datasheets/pdf/en-us/0520451445_FFC_FPC_CONNECTORS.pdf; ComponentLink3Description: Package Specification; ComponentLink3URL: http://www.molex.com/pdm_docs/sd/520451445_sd.pdf
footprint MOLX-52045-1445 (FFC Connector, 14-Leads, Vertical, Pitch 1.25 mm, Mated Height 8.0 mm, Through Hole)
pins: 1, 2, 3, 4, 5, 6, 7, 8, 9, 10, 11, 12, 13, 14

## 52045-1545
designator J?
1.25 mm Pitch FFC Connector, 8.0 mm Mated Height, Vertical, Non-ZIF, Through Hole, 15 Circuits, -40 to 85 degC, ELV and RoHS Compliant, Tray; Manufacturer: Molex; PartNumber: 52045-1545; Circuits (Loaded): 15; Current (Max per Contact): 1A; Mated Height: 8.00mm; Material - Metal: Phosphor Bronze; Material - Plating Mating: Tin; PCB Retention: None; Pitch - Mating Interface: 1.25mm; Polarized to PCB: Yes; Stackable: No; Voltage (Max): 200V; PackageVersion: Rev. D, 10/2002; PackageReference: 52045-1545; PackageDescription: 15-Lead FFC Connector, Pitch 1.25 mm; Contact Position: N/A; Entry Angle: Vertical; Material - Plating Termination: Tin; Number of Rows: 1; Orientation: Vertical; Packing: Tray; RoHS: TRUE; Mounting Technology: Through Hole; ComponentLink1Description: Manufacturer URL; ComponentLink1URL: http://www.molex.com/molex/index.jsp; ComponentLink2Description: Datasheet; ComponentLink2URL: http://www.molex.com/webdocs/datasheets/pdf/en-us/0520451545_FFC_FPC_CONNECTORS.pdf; ComponentLink3Description: Package Specification; ComponentLink3URL: http://www.molex.com/pdm_docs/sd/520451545_sd.pdf
footprint MOLX-52045-1545 (FFC Connector, 15-Leads, Vertical, Pitch 1.25 mm, Mated Height 8.0 mm, Through Hole)
pins: 1, 2, 3, 4, 5, 6, 7, 8, 9, 10, 11, 12, 13, 14, 15

## 52045-1645
designator J?
1.25 mm Pitch FFC Connector, 8.0 mm Mated Height, Vertical, Non-ZIF, Through Hole, 16 Circuits, -40 to 85 degC, ELV and RoHS Compliant, Tray; Manufacturer: Molex; PartNumber: 52045-1645; Circuits (Loaded): 16; Current (Max per Contact): 1A; Mated Height: 8.00mm; Material - Metal: Phosphor Bronze; Material - Plating Mating: Tin; PCB Retention: None; Pitch - Mating Interface: 1.25mm; Polarized to PCB: Yes; Stackable: No; Voltage (Max): 200V; PackageVersion: Rev. D, 10/2002; PackageReference: 52045-1645; PackageDescription: 16-Lead FFC Connector, Pitch 1.25 mm; Contact Position: N/A; Entry Angle: Vertical; Material - Plating Termination: Tin; Number of Rows: 1; Orientation: Vertical; Packing: Tray; RoHS: TRUE; Mounting Technology: Through Hole; ComponentLink1Description: Manufacturer URL; ComponentLink1URL: http://www.molex.com/molex/index.jsp; ComponentLink2Description: Datasheet; ComponentLink2URL: http://www.molex.com/webdocs/datasheets/pdf/en-us/0520451645_FFC_FPC_CONNECTORS.pdf; ComponentLink3Description: Package Specification; ComponentLink3URL: http://www.molex.com/pdm_docs/sd/520451645_sd.pdf
footprint MOLX-52045-1645 (FFC Connector, 16-Leads, Vertical, Pitch 1.25 mm, Mated Height 8.0 mm, Through Hole)
pins: 1, 2, 3, 4, 5, 6, 7, 8, 9, 10, 11, 12, 13, 14, 15, 16

## 52045-1745
designator J?
1.25 mm Pitch FFC Connector, 8.0 mm Mated Height, Vertical, Non-ZIF, Through Hole, 17 Circuits, -40 to 85 degC, ELV and RoHS Compliant, Tray; Manufacturer: Molex; PartNumber: 52045-1745; Circuits (Loaded): 17; Current (Max per Contact): 1A; Mated Height: 8.00mm; Material - Metal: Phosphor Bronze; Material - Plating Mating: Tin; PCB Retention: None; Pitch - Mating Interface: 1.25mm; Polarized to PCB: Yes; Stackable: No; Voltage (Max): 200V; PackageVersion: Rev. D, 10/2002; PackageReference: 52045-1745; PackageDescription: 17-Lead FFC Connector, Pitch 1.25 mm; Contact Position: N/A; Entry Angle: Vertical; Material - Plating Termination: Tin; Number of Rows: 1; Orientation: Vertical; Packing: Tray; RoHS: TRUE; Mounting Technology: Through Hole; ComponentLink1Description: Manufacturer URL; ComponentLink1URL: http://www.molex.com/molex/index.jsp; ComponentLink2Description: Datasheet; ComponentLink2URL: http://www.molex.com/webdocs/datasheets/pdf/en-us/0520451745_FFC_FPC_CONNECTORS.pdf; ComponentLink3Description: Package Specification; ComponentLink3URL: http://www.molex.com/pdm_docs/sd/520451745_sd.pdf
footprint MOLX-52045-1745 (FFC Connector, 17-Leads, Vertical, Pitch 1.25 mm, Mated Height 8.0 mm, Through Hole)
pins: 1, 2, 3, 4, 5, 6, 7, 8, 9, 10, 11, 12, 13, 14, 15, 16, 17

## 52045-1845
designator J?
1.25 mm Pitch FFC Connector, 8.0 mm Mated Height, Vertical, Non-ZIF, Through Hole, 18 Circuits, -40 to 85 degC, ELV and RoHS Compliant, Tray; Manufacturer: Molex; PartNumber: 52045-1845; Circuits (Loaded): 18; Current (Max per Contact): 1A; Mated Height: 8.00mm; Material - Metal: Phosphor Bronze; Material - Plating Mating: Tin; PCB Retention: None; Pitch - Mating Interface: 1.25mm; Polarized to PCB: Yes; Stackable: No; Voltage (Max): 200V; PackageVersion: Rev. D, 10/2002; PackageReference: 52045-1845; PackageDescription: 18-Lead FFC Connector, Pitch 1.25 mm; Contact Position: N/A; Entry Angle: Vertical; Material - Plating Termination: Tin; Number of Rows: 1; Orientation: Vertical; Packing: Tray; RoHS: TRUE; Mounting Technology: Through Hole; ComponentLink1Description: Manufacturer URL; ComponentLink1URL: http://www.molex.com/molex/index.jsp; ComponentLink2Description: Datasheet; ComponentLink2URL: http://www.molex.com/webdocs/datasheets/pdf/en-us/0520451845_FFC_FPC_CONNECTORS.pdf; ComponentLink3Description: Package Specification; ComponentLink3URL: http://www.molex.com/pdm_docs/sd/520451845_sd.pdf
footprint MOLX-52045-1845 (FFC Connector, 18-Leads, Vertical, Pitch 1.25 mm, Mated Height 8.0 mm, Through Hole)
pins: 1, 2, 3, 4, 5, 6, 7, 8, 9, 10, 11, 12, 13, 14, 15, 16, 17, 18

## 52045-1945
designator J?
1.25 mm Pitch FFC Connector, 8.0 mm Mated Height, Vertical, Non-ZIF, Through Hole, 19 Circuits, -40 to 85 degC, ELV and RoHS Compliant, Tray; Manufacturer: Molex; PartNumber: 52045-1945; Circuits (Loaded): 19; Current (Max per Contact): 1A; Mated Height: 8.00mm; Material - Metal: Phosphor Bronze; Material - Plating Mating: Tin; PCB Retention: None; Pitch - Mating Interface: 1.25mm; Polarized to PCB: Yes; Stackable: No; Voltage (Max): 200V; PackageVersion: Rev. D, 10/2002; PackageReference: 52045-1945; PackageDescription: 19-Lead FFC Connector, Pitch 1.25 mm; Contact Position: N/A; Entry Angle: Vertical; Material - Plating Termination: Tin; Number of Rows: 1; Orientation: Vertical; Packing: Tray; RoHS: TRUE; Mounting Technology: Through Hole; ComponentLink1Description: Manufacturer URL; ComponentLink1URL: http://www.molex.com/molex/index.jsp; ComponentLink2Description: Datasheet; ComponentLink2URL: http://www.molex.com/webdocs/datasheets/pdf/en-us/0520451945_FFC_FPC_CONNECTORS.pdf; ComponentLink3Description: Package Specification; ComponentLink3URL: http://www.molex.com/pdm_docs/sd/520451945_sd.pdf
footprint MOLX-52045-1945 (FFC Connector, 19-Leads, Vertical, Pitch 1.25 mm, Mated Height 8.0 mm, Through Hole)
pins: 1, 2, 3, 4, 5, 6, 7, 8, 9, 10, 11, 12, 13, 14, 15, 16, 17, 18, 19

## 52045-2045
designator J?
1.25 mm Pitch FFC Connector, 8.0 mm Mated Height, Vertical, Non-ZIF, Through Hole, 20 Circuits, -40 to 85 degC, ELV and RoHS Compliant, Tray; Manufacturer: Molex; PartNumber: 52045-2045; Circuits (Loaded): 20; Current (Max per Contact): 1A; Mated Height: 8.00mm; Material - Metal: Phosphor Bronze; Material - Plating Mating: Tin; PCB Retention: None; Pitch - Mating Interface: 1.25mm; Polarized to PCB: Yes; Stackable: No; Voltage (Max): 200V; PackageVersion: Rev. D, 10/2002; PackageReference: 52045-2045; PackageDescription: 20-Lead FFC Connector, Pitch 1.25 mm; Contact Position: N/A; Entry Angle: Vertical; Material - Plating Termination: Tin; Number of Rows: 1; Orientation: Vertical; Packing: Tray; RoHS: TRUE; Mounting Technology: Through Hole; ComponentLink1Description: Manufacturer URL; ComponentLink1URL: http://www.molex.com/molex/index.jsp; ComponentLink2Description: Datasheet; ComponentLink2URL: http://www.molex.com/webdocs/datasheets/pdf/en-us/0520452045_FFC_FPC_CONNECTORS.pdf; ComponentLink3Description: Package Specification; ComponentLink3URL: http://www.molex.com/pdm_docs/sd/520452045_sd.pdf
footprint MOLX-52045-2045 (FFC Connector, 20-Leads, Vertical, Pitch 1.25 mm, Mated Height 8.0 mm, Through Hole)
pins: 1, 2, 3, 4, 5, 6, 7, 8, 9, 10, 11, 12, 13, 14, 15, 16, 17, 18, 19, 20

## 52045-2145
designator J?
1.25 mm Pitch FFC Connector, 8.0 mm Mated Height, Vertical, Non-ZIF, Through Hole, 21 Circuits, -40 to 85 degC, ELV and RoHS Compliant, Tray; Manufacturer: Molex; PartNumber: 52045-2145; Circuits (Loaded): 21; Current (Max per Contact): 1A; Mated Height: 8.00mm; Material - Metal: Phosphor Bronze; Material - Plating Mating: Tin; PCB Retention: None; Pitch - Mating Interface: 1.25mm; Polarized to PCB: Yes; Stackable: No; Voltage (Max): 200V; PackageVersion: Rev. D, 10/2002; PackageReference: 52045-2145; PackageDescription: 21-Lead FFC Connector, Pitch 1.25 mm; Contact Position: N/A; Entry Angle: Vertical; Material - Plating Termination: Tin; Number of Rows: 1; Orientation: Vertical; Packing: Tray; RoHS: TRUE; Mounting Technology: Through Hole; ComponentLink1Description: Manufacturer URL; ComponentLink1URL: http://www.molex.com/molex/index.jsp; ComponentLink2Description: Datasheet; ComponentLink2URL: http://www.molex.com/webdocs/datasheets/pdf/en-us/0520452145_FFC_FPC_CONNECTORS.pdf; ComponentLink3Description: Package Specification; ComponentLink3URL: http://www.molex.com/pdm_docs/sd/520452145_sd.pdf
footprint MOLX-52045-2145 (FFC Connector, 21-Leads, Vertical, Pitch 1.25 mm, Mated Height 8.0 mm, Through Hole)
pins: 1, 2, 3, 4, 5, 6, 7, 8, 9, 10, 11, 12, 13, 14, 15, 16, 17, 18, 19, 20, 21

## 52045-2245
designator J?
1.25 mm Pitch FFC Connector, 8.0 mm Mated Height, Vertical, Non-ZIF, Through Hole, 22 Circuits, -40 to 85 degC, ELV and RoHS Compliant, Tray; Manufacturer: Molex; PartNumber: 52045-2245; Circuits (Loaded): 22; Current (Max per Contact): 1A; Mated Height: 8.00mm; Material - Metal: Phosphor Bronze; Material - Plating Mating: Tin; PCB Retention: None; Pitch - Mating Interface: 1.25mm; Polarized to PCB: Yes; Stackable: No; Voltage (Max): 200V; PackageVersion: Rev. D, 10/2002; PackageReference: 52045-2245; PackageDescription: 22-Lead FFC Connector, Pitch 1.25 mm; Contact Position: N/A; Entry Angle: Vertical; Material - Plating Termination: Tin; Number of Rows: 1; Orientation: Vertical; Packing: Tray; RoHS: TRUE; Mounting Technology: Through Hole; ComponentLink1Description: Manufacturer URL; ComponentLink1URL: http://www.molex.com/molex/index.jsp; ComponentLink2Description: Datasheet; ComponentLink2URL: http://www.molex.com/webdocs/datasheets/pdf/en-us/0520452245_FFC_FPC_CONNECTORS.pdf; ComponentLink3Description: Package Specification; ComponentLink3URL: http://www.molex.com/pdm_docs/sd/520452245_sd.pdf
footprint MOLX-52045-2245 (FFC Connector, 22-Leads, Vertical, Pitch 1.25 mm, Mated Height 8.0 mm, Through Hole)
pins: 1, 2, 3, 4, 5, 6, 7, 8, 9, 10, 11, 12, 13, 14, 15, 16, 17, 18, 19, 20, 21, 22

## 52045-2345
designator J?
1.25 mm Pitch FFC Connector, 8.0 mm Mated Height, Vertical, Non-ZIF, Through Hole, 23 Circuits, -40 to 85 degC, ELV and RoHS Compliant, Tray; Manufacturer: Molex; PartNumber: 52045-2345; Circuits (Loaded): 23; Current (Max per Contact): 1A; Mated Height: 8.00mm; Material - Metal: Phosphor Bronze; Material - Plating Mating: Tin; PCB Retention: None; Pitch - Mating Interface: 1.25mm; Polarized to PCB: Yes; Stackable: No; Voltage (Max): 200V; PackageVersion: Rev. D, 10/2002; PackageReference: 52045-2345; PackageDescription: 23-Lead FFC Connector, Pitch 1.25 mm; Contact Position: N/A; Entry Angle: Vertical; Material - Plating Termination: Tin; Number of Rows: 1; Orientation: Vertical; Packing: Tray; RoHS: TRUE; Mounting Technology: Through Hole; ComponentLink1Description: Manufacturer URL; ComponentLink1URL: http://www.molex.com/molex/index.jsp; ComponentLink2Description: Datasheet; ComponentLink2URL: http://www.molex.com/webdocs/datasheets/pdf/en-us/0520452345_FFC_FPC_CONNECTORS.pdf; ComponentLink3Description: Package Specification; ComponentLink3URL: http://www.molex.com/pdm_docs/sd/520452345_sd.pdf
footprint MOLX-52045-2345 (FFC Connector, 23-Leads, Vertical, Pitch 1.25 mm, Mated Height 8.0 mm, Through Hole)
pins: 1, 2, 3, 4, 5, 6, 7, 8, 9, 10, 11, 12, 13, 14, 15, 16, 17, 18, 19, 20, 21, 22, 23

## 52045-2445
designator J?
1.25 mm Pitch FFC Connector, 8.0 mm Mated Height, Vertical, Non-ZIF, Through Hole, 24 Circuits, -40 to 85 degC, ELV and RoHS Compliant, Tray; Manufacturer: Molex; PartNumber: 52045-2445; Circuits (Loaded): 24; Current (Max per Contact): 1A; Mated Height: 8.00mm; Material - Metal: Phosphor Bronze; Material - Plating Mating: Tin; PCB Retention: None; Pitch - Mating Interface: 1.25mm; Polarized to PCB: Yes; Stackable: No; Voltage (Max): 200V; PackageVersion: Rev. D, 10/2002; PackageReference: 52045-2445; PackageDescription: 24-Lead FFC Connector, Pitch 1.25 mm; Contact Position: N/A; Entry Angle: Vertical; Material - Plating Termination: Tin; Number of Rows: 1; Orientation: Vertical; Packing: Tray; RoHS: TRUE; Mounting Technology: Through Hole; ComponentLink1Description: Manufacturer URL; ComponentLink1URL: http://www.molex.com/molex/index.jsp; ComponentLink2Description: Datasheet; ComponentLink2URL: http://www.molex.com/webdocs/datasheets/pdf/en-us/0520452445_FFC_FPC_CONNECTORS.pdf; ComponentLink3Description: Package Specification; ComponentLink3URL: http://www.molex.com/pdm_docs/sd/520452445_sd.pdf
footprint MOLX-52045-2445 (FFC Connector, 24-Leads, Vertical, Pitch 1.25 mm, Mated Height 8.0 mm, Through Hole)
pins: 1, 2, 3, 4, 5, 6, 7, 8, 9, 10, 11, 12, 13, 14, 15, 16, 17, 18, 19, 20, 21, 22, 23, 24

## 52045-2545
designator J?
1.25 mm Pitch FFC Connector, 8.0 mm Mated Height, Vertical, Non-ZIF, Through Hole, 25 Circuits, -40 to 85 degC, ELV and RoHS Compliant, Tray; Manufacturer: Molex; PartNumber: 52045-2545; Circuits (Loaded): 25; Current (Max per Contact): 1A; Mated Height: 8.00mm; Material - Metal: Phosphor Bronze; Material - Plating Mating: Tin; PCB Retention: None; Pitch - Mating Interface: 1.25mm; Polarized to PCB: Yes; Stackable: No; Voltage (Max): 200V; PackageVersion: Rev. D, 10/2002; PackageReference: 52045-2545; PackageDescription: 25-Lead FFC Connector, Pitch 1.25 mm; Contact Position: N/A; Entry Angle: Vertical; Material - Plating Termination: Tin; Number of Rows: 1; Orientation: Vertical; Packing: Tray; RoHS: TRUE; Mounting Technology: Through Hole; ComponentLink1Description: Manufacturer URL; ComponentLink1URL: http://www.molex.com/molex/index.jsp; ComponentLink2Description: Datasheet; ComponentLink2URL: http://www.molex.com/webdocs/datasheets/pdf/en-us/0520452545_FFC_FPC_CONNECTORS.pdf; ComponentLink3Description: Package Specification; ComponentLink3URL: http://www.molex.com/pdm_docs/sd/520452545_sd.pdf
footprint MOLX-52045-2545 (FFC Connector, 25-Leads, Vertical, Pitch 1.25 mm, Mated Height 8.0 mm, Through Hole)
pins: 1, 2, 3, 4, 5, 6, 7, 8, 9, 10, 11, 12, 13, 14, 15, 16, 17, 18, 19, 20, 21, 22, 23, 24, 25

## 52045-2645
designator J?
1.25 mm Pitch FFC Connector, 8.0 mm Mated Height, Vertical, Non-ZIF, Through Hole, 26 Circuits, -40 to 85 degC, ELV and RoHS Compliant, Tray; Manufacturer: Molex; PartNumber: 52045-2645; Circuits (Loaded): 26; Current (Max per Contact): 1A; Mated Height: 8.00mm; Material - Metal: Phosphor Bronze; Material - Plating Mating: Tin; PCB Retention: None; Pitch - Mating Interface: 1.25mm; Polarized to PCB: Yes; Stackable: No; Voltage (Max): 200V; PackageVersion: Rev. D, 10/2002; PackageReference: 52045-2645; PackageDescription: 26-Lead FFC Connector, Pitch 1.25 mm; Contact Position: N/A; Entry Angle: Vertical; Material - Plating Termination: Tin; Number of Rows: 1; Orientation: Vertical; Packing: Tray; RoHS: TRUE; Mounting Technology: Through Hole; ComponentLink1Description: Manufacturer URL; ComponentLink1URL: http://www.molex.com/molex/index.jsp; ComponentLink2Description: Datasheet; ComponentLink2URL: http://www.molex.com/webdocs/datasheets/pdf/en-us/0520452645_FFC_FPC_CONNECTORS.pdf; ComponentLink3Description: Package Specification; ComponentLink3URL: http://www.molex.com/pdm_docs/sd/520452645_sd.pdf
footprint MOLX-52045-2645 (FFC Connector, 26-Leads, Vertical, Pitch 1.25 mm, Mated Height 8.0 mm, Through Hole)
pins: 1, 2, 3, 4, 5, 6, 7, 8, 9, 10, 11, 12, 13, 14, 15, 16, 17, 18, 19, 20, 21, 22, 23, 24, 25, 26

## 52045-2745
designator J?
1.25 mm Pitch FFC Connector, 8.0 mm Mated Height, Vertical, Non-ZIF, Through Hole, 27 Circuits, -40 to 85 degC, ELV and RoHS Compliant, Tray; Manufacturer: Molex; PartNumber: 52045-2745; Circuits (Loaded): 27; Current (Max per Contact): 1A; Mated Height: 8.00mm; Material - Metal: Phosphor Bronze; Material - Plating Mating: Tin; PCB Retention: None; Pitch - Mating Interface: 1.25mm; Polarized to PCB: Yes; Stackable: No; Voltage (Max): 200V; PackageVersion: Rev. D, 10/2002; PackageReference: 52045-2745; PackageDescription: 27-Lead FFC Connector, Pitch 1.25 mm; Contact Position: N/A; Entry Angle: Vertical; Material - Plating Termination: Tin; Number of Rows: 1; Orientation: Vertical; Packing: Tray; RoHS: TRUE; Mounting Technology: Through Hole; ComponentLink1Description: Manufacturer URL; ComponentLink1URL: http://www.molex.com/molex/index.jsp; ComponentLink2Description: Datasheet; ComponentLink2URL: http://www.molex.com/webdocs/datasheets/pdf/en-us/0520452745_FFC_FPC_CONNECTORS.pdf; ComponentLink3Description: Package Specification; ComponentLink3URL: http://www.molex.com/pdm_docs/sd/520452745_sd.pdf
footprint MOLX-52045-2745 (FFC Connector, 27-Leads, Vertical, Pitch 1.25 mm, Mated Height 8.0 mm, Through Hole)
pins: 1, 2, 3, 4, 5, 6, 7, 8, 9, 10, 11, 12, 13, 14, 15, 16, 17, 18, 19, 20, 21, 22, 23, 24, 25, 26, 27